# Altium schematic symbol library iTimeAfrica_Symbol.SchLib: 21 symbols
Pins are listed as number, name and electrical type; pins without a type are passive.

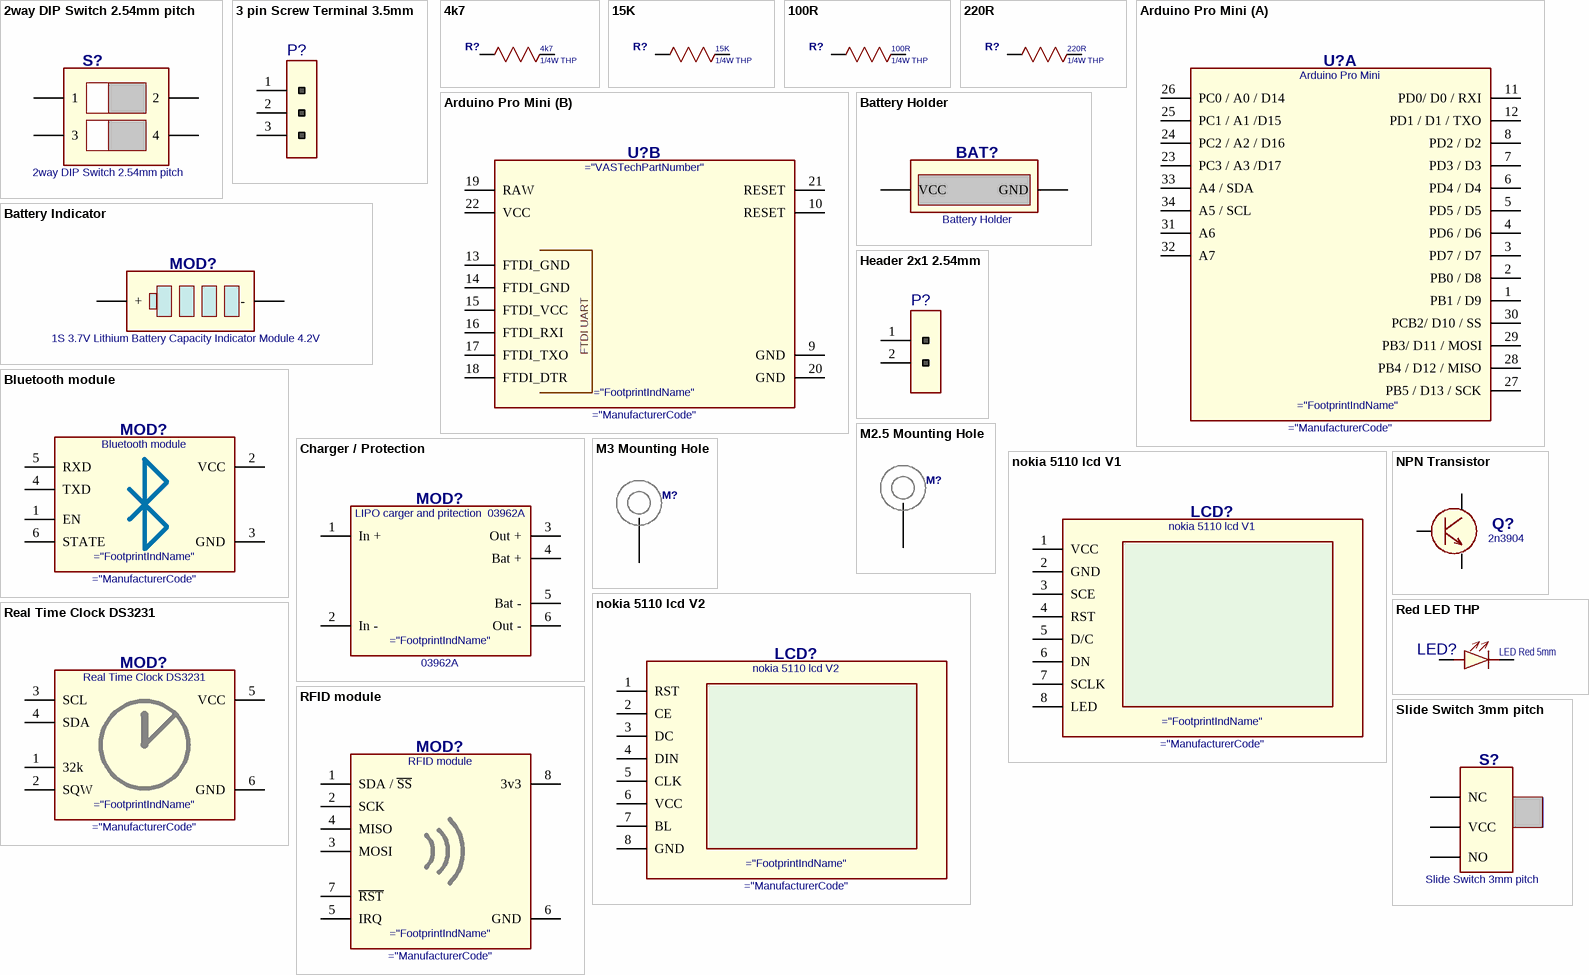
[diagram p0: symbols 2way DIP Switch 2.54mm pitch to Slide Switch 3mm pitch]

## 2way DIP Switch 2.54mm pitch
designator S?, comment 2x DIP Switch 2.54mm pitch  (value not drawn)
2way DIP Switch 2.54mm pitch; Manufacturer: Arcolectric Corporation; ManufacturerPartNumber: KTS02E; Attributes: 2x DIP Switch 2.54mm pitch; Supplier_2: https://za.rs-online.com/web/p/dip-sip-switches/8772116/; Supplier_1: http://www.communica.co.za/Catalog/Details/P1597622190; Package: 2x2 2.54
footprint 2way DIP switch (2way DIP switch 2.54pitch)
pins: 1, 2, 3, 4

## 3 pin Screw Terminal 3.5mm
designator P?  (value not drawn)
ManufacturerPartNumber: 1984950; Manufacturer: RS; Attributes: 3 pin Screw Terminal 3.5mm; Package: 3x1 3.5mm; Supplier_1: https://www.netram.co.za/2955-screw-terminal-35mm-2-pin-5-pk.html
footprint 3x1 Screw terminal 3.5mm (Con Screw terminal 3.5mm)
pins: 1, 2, 3

## 4k7
designator R?  Package: 1/4W THP  (hidden comment: 4k7)
Resistor; Supplier_1: comunica; Attributes: 4k7
footprint Res 1/4W THP (4k7)
pins: 1, 2

## 15K
designator R?  Package: 1/4W THP  (hidden comment: 15K)
Resistor; Attributes: 15K; Supplier_1: comunica
footprint Res 1/4W THP
pins: 1, 2

## 100R
designator R?  Package: 1/4W THP  (hidden comment: 100R)
Resistor; Supplier_1: comunica; Attributes: 100R
footprint Res 1/4W THP (100R)
pins: 1, 2

## 220R
designator R?  Package: 1/4W THP  (hidden comment: 220R)
Resistor; Supplier_1: comunica; Attributes: 220R
footprint Res 1/4W THP
pins: 1, 2

## Arduino Pro Mini
designator U?  (value not drawn)
Manufacturer: SparkFun Electronics; ManufacturerPartNumber: DEV-11113  (check this); Attributes: Arduino Pro Mini; Supplier_1: https://www.aliexpress.com/item/2PCS-New-Pro-Mini-Atmega328-3-3V-8M-Replace-ATmega128-For-Arduino-Compatible-Nano/2037934450.html?spm=a2g0s.9042311.0.0.wP2Mco
footprint ARDUINO PRO MINI (NO FTDI) (ARDUINO PRO MINI)
footprint ARDUINO PRO MINI v2 (NO FTDI) (Footprint not found)
part A pins: 1 PB1 / D9, 2 PB0 / D8 "Shutdown (leave open if not used)", 3 PD7 / D7, 4 PD6 / D6, 5 PD5 / D5, 6 PD4 / D4, 7 PD3 / D3, 8 PD2 / D2 "Shutdown (leave open if not used)", 11 PD0/ D0 / RXI, 12 PD1 / D1 / TXO, 23 PC3 / A3 /D17, 24 PC2 / A2 / D16, 25 PC1 / A1 /D15, 26 PC0 / A0 / D14, 27 PB5 / D13 / SCK, 28 PB4 / D12 / MISO, 29 PB3/ D11 / MOSI, 30 PCB2/ D10 / SS, 31 A6, 32 A7, 33 A4 / SDA, 34 A5 / SCL
part B pins: 9 GND, 10 RESET, 13 FTDI_GND, 14 FTDI_GND "Shutdown (leave open if not used)", 15 FTDI_VCC, 16 FTDI_RXI, 17 FTDI_TXO, 18 FTDI_DTR, 19 RAW, 20 GND, 21 RESET, 22 VCC
part B text: FTDI UART

## Battery Holder
designator BAT?  (value not drawn)
Attributes: Battery Holder; Supplier_2: ?; Supplier_1: AlliExpress
footprint Battery Holder (Footprint not found)
pins: 1 VCC, 2 GND

## Battery Indicator
designator MOD?, comment 1S 3.7V Lithium Battery Capacity Indicator Module 4.2V  (value not drawn)
Attributes: 1S 3.7V Lithium Battery Capacity Indicator Module 4.2V; Package: 45mm x 20mm; Supplier_2: ?; Supplier_1: AlliExpress
footprint Battery Indicator (Footprint not found)
pins: 1 +, 2 -

## Bluetooth module
designator MOD?  (value not drawn)
Attributes: Bluetooth module; Supplier_1: https://www.aliexpress.com/item/Wireless-Serial-6-Pin-Bluetooth-RF-Transceiver-Module-HC-05-RS232-Master-Slave/2038549888.html?spm=a2g0s.9042311.0.0.wP2Mco
footprint BlueTooth Card
pins: 1 EN, 2 VCC "Shutdown (leave open if not used)", 3 GND, 4 TXD, 5 RXD, 6 STATE

## Charger / Protection
designator MOD?, comment Real Time Clock DS3231  (value not drawn)
LIPO carger and pritection  03962A; Attributes: Real Time Clock DS3231; ManufacturerPartNumber: 03962A
footprint Charger/protection (03962A charging and protection circuit)
pins: 1 In +, 2 In - "Shutdown (leave open if not used)", 3 Out +, 4 Bat +, 5 Bat -, 6 Out -

## Header 2x1 2.54mm
designator P?, comment 2x1 2.54mm  (value not drawn)
Header 2x1 2.54mm; ManufacturerPartNumber: 90120; Manufacturer: Molex; Attributes: 2x1 2.54mm
footprint Con Molex 90120 2-Way (Connector Molex 90120 (2.54 Strip) 2-Way)
pins: 1, 2

## M2.5 Mounting Hole
designator M?, comment M2.5-5  (value not drawn)  (no BOM)
Mounting Hole; Package: THL; Attributes: M2.5-5
footprint M2.5 Mounting Hole (M5,  Hole 2.7mm, Land 5mm)
pins: 1

## M3 Mounting Hole
designator M?, comment M3-7  (value not drawn)  (no BOM)
Mounting Hole; Package: THL; Attributes: M3-7
footprint M3 Mounting Hole (Hole 3mm, Land 7mm)
pins: 1

## nokia 5110 lcd V1
designator LCD?, comment nokia 5110 lcd  (value not drawn)
nokia 5110 lcd V1; Manufacturer: unknown; Attributes: nokia 5110 lcd; ManufacturerPartNumber: unknown
pins: 1 VCC, 2 GND "Shutdown (leave open if not used)", 3 SCE, 4 RST, 5 D/C, 6 DN, 7 SCLK, 8 LED "Shutdown (leave open if not used)"

## nokia 5110 lcd V2
designator LCD?, comment nokia 5110 lcd  (value not drawn)
nokia 5110 lcd V2; Manufacturer: unknown; Attributes: nokia 5110 lcd; ManufacturerPartNumber: unknown; Supplier_1: https://www.aliexpress.com/item/84-48-LCD-Module-White-backlight-adapter-pcb-for-Nokia-5110/1859113549.html?spm=a2g0s.9042311.0.0.fpwn1h
footprint Nokia 5110 GLCD 84x48
pins: 1 RST, 2 CE  "Shutdown (leave open if not used)", 3 DC , 4 DIN, 5 CLK, 6 VCC, 7 BL , 8 GND "Shutdown (leave open if not used)"

## NPN Transistor
designator Q?, comment 2n3904
NPN Transistor; Manufacturer: Fairchild; Supplier_1: http://www.communica.co.za/Catalog/Details/P0173638625; ManufacturerPartNumber: 2n3904; Package: TO92; Attributes: 2n3904
footprint TO-92
pins: 1 C, 2 B, 3 E

## Real Time Clock DS3231
designator MOD?  (value not drawn)
Attributes: Real Time Clock DS3231; Supplier_1: https://www.aliexpress.com/item/DS3231-AT24C32-IIC-High-Precision-RTC-Module-Clock-Timer-Memory-Module/2037934408.html?spm=a2g0s.9042311.0.0.wP2Mco
footprint RTC DS3231 (Real time clock DS3231)
pins: 1 32k, 2 SQW "Shutdown (leave open if not used)", 3 SCL, 4 SDA, 5 VCC, 6 GND

## Red LED THP
designator LED?, comment LED Red 5mm
Red LED, 5mm THP; ManufacturerPartNumber: L-53SR; Manufacturer: kingbright; Package: 5mm x9; Supplier_1: http://www.communica.co.za/Catalog/Details/P2732841061; Attributes: LED Red 5mm
footprint LED THL 5x9mm Vert (LED THL 5x9mm)
pins: 1 A, 2 C

## RFID module
designator MOD?  (value not drawn)
ManufacturerPartNumber: RFID-RC533; Attributes: RFID module; Supplier_1: https://www.aliexpress.com/item/13-56MHz-RFID-MF-RC522-RC-522-Reader-Writer-Module-I2C-Interface-2-Pins-Sensor-Card/32785550279.html?spm=a2g0s.9042311.0.0.wP2Mco
footprint RFID-RC522
pins: 1 SDA / ~{SS}, 2 SCK "Shutdown (leave open if not used)", 3 MOSI, 4 MISO, 5 IRQ, 6 GND, 7 ~{RST}, 8 3v3 "Shutdown (leave open if not used)"

## Slide Switch 3mm pitch
designator S?  (value not drawn)
Manufacturer: Arcolectric Corporation; Attributes: Slide Switch 3mm pitch; Supplier_2: http://www.communica.co.za/catalog/Details/P2624616678; Supplier_1: http://www.communica.co.za/Catalog/Details/P2077750286; Package: 3x1 3mm
footprint Slide Switch 3mm (Footprint not found)
pins: 1 NC, 2 VCC, 3 NO